# EAGLE library part IN-2 (library nixies-us)
IN-2: tiny numeric topview nixie tube
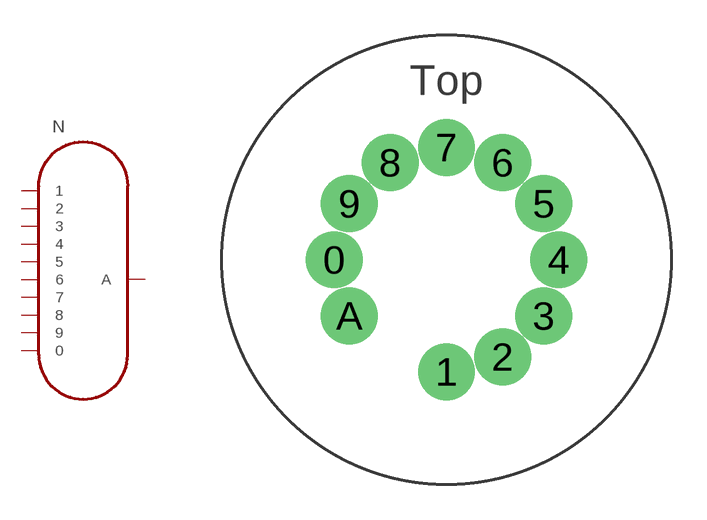
[diagram p15: symbol with the pads of IN-2-DSUB; footprint IN-2-DSUB]

Designator prefix N

## IN-2  [IN-2-DSUB]
0  0
1  1
2  2
3  3
4  4
5  5
6  6
7  7
8  8
9  9
A  A

## Footprint IN-2-DSUB (pad centres in mm)
drill 1.6 pad 2.184: 0 -4.75,0; 1 0,-4.75; 2 2.375,-4.113; 3 4.113,-2.375; 4 4.75,0; 5 4.113,2.375; 6 2.375,4.113; 7 0,4.75; 8 -2.375,4.113; 9 -4.113,2.375; A -4.113,-2.375